# Altium footprint library Potentiometer_THT.PcbLib: 112 footprints (part 7 of 7)
Each footprint in its own frame and in the unit in brackets; x right, y up, seen from the top. Pads: shape width x height; smd on the part's side, far side on the other; paste and mask are expansions set on the pad; w line width, h text height; cw(c..) or ccw(c..) is an arc to the next point about the centre after c.
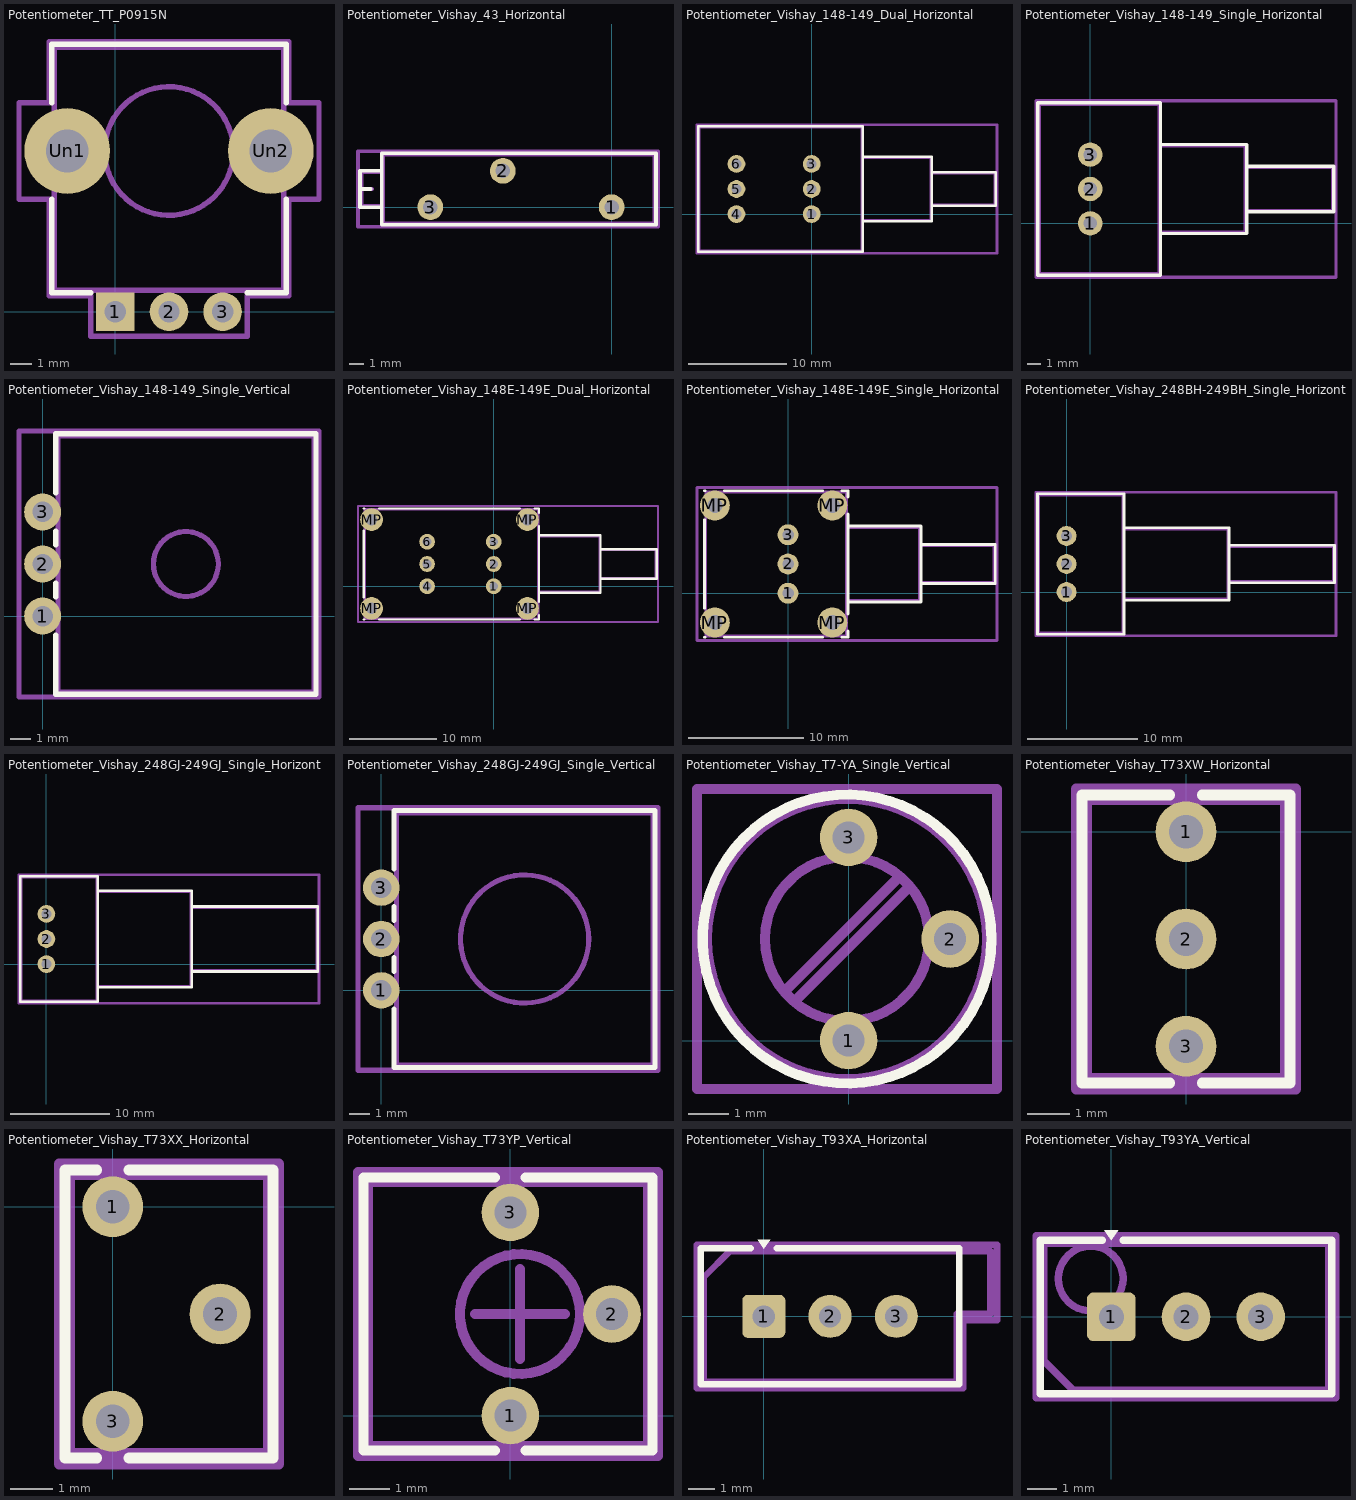
[diagram p6: the footprints below, top view; thin cyan lines are the x and y axes]

## Potentiometer_TT_P0915N [mm]
pads (5):
  rect 1.8x1.8 hole 1: 1(0,0)
  round 1.8 hole 1: 2(2.5,0) 3(5,0)
  rrect100% 4x4 hole 2: Un1(-2.25,7.5) Un2(7.25,7.5)
F.SilkS:
  lines w0.254: -2.97,5.25 -2.97,0.88 -1.15,0.88 ; -2.97,9.75 -2.97,12.47 7.97,12.47 7.97,9.75 ; 6.15,0.88 7.97,0.88 7.97,5.25
F.Fab:
  circle w0.254: c2.5,7.5 r3
  lines w0.254: -2.85,1 -2.85,12.35 7.85,12.35 7.85,1 -2.85,1
  text "'.Designator'" at -1.547,6.66 h1
F.CrtYd:
  lines w0.254: -4.5,5.25 -4.5,9.75 -3.1,9.75 -3.1,12.6 8.1,12.6 8.1,9.75 9.5,9.75 9.5,5.25 8.1,5.25 8.1,0.75 6.15,0.75 6.15,-1.15 -1.15,-1.15 -1.15,0.75 -3.1,0.75 -3.1,5.25 -4.5,5.25

## Potentiometer_Vishay_43_Horizontal [mm]
pads (3):
  round 1.8 hole 1: 1(0,0) 2(-7.62,2.54) 3(-12.7,0)
F.SilkS:
  lines w0.254: -17.63,1.27 -16.87,1.27 ; -17.63,-0.02 -17.63,2.56 -16.11,2.56 -16.11,-0.02 -17.63,-0.02 ; -16.11,-1.24 -16.11,3.78 3.11,3.78 3.11,-1.24 -16.11,-1.24
F.Fab:
  lines w0.254: -17.52,1.27 -16.76,1.27 ; -17.52,0.09 -17.52,2.45 -16,2.45 -16,0.09 -17.52,0.09 ; -16,-1.13 -16,3.67 3,3.67 3,-1.13 -16,-1.13
  text "'.Designator'" at -10.547,0.43 h1
F.CrtYd:
  lines w0.254: -17.77,-1.38 -17.77,3.92 3.25,3.92 3.25,-1.38 -17.77,-1.38

## Potentiometer_Vishay_148-149_Dual_Horizontal [mm]
pads (6):
  round 1.8 hole 1: 1(0,0) 2(0,2.54) 3(0,5.08) 4(-7.62,0) 5(-7.62,2.54) 6(-7.62,5.08)
F.SilkS:
  lines w0.254: -11.48,-3.82 -11.48,8.9 5.19,8.9 5.19,-3.82 -11.48,-3.82 ; 5.19,-0.745 5.19,5.825 12.19,5.825 12.19,-0.745 5.19,-0.745 ; 12.19,0.845 12.19,4.235 18.64,4.235 18.64,0.845 12.19,0.845
F.Fab:
  lines w0.254: -11.37,-3.71 -11.37,8.79 5.08,8.79 5.08,-3.71 -11.37,-3.71 ; 5.08,-0.635 5.08,5.715 12.08,5.715 12.08,-0.635 5.08,-0.635 ; 12.08,0.955 12.08,4.125 18.53,4.125 18.53,0.955 12.08,0.955
  text "'.Designator'" at -7.192,1.7 h1
F.CrtYd:
  lines w0.254: -11.62,-3.96 -11.62,9.04 18.78,9.04 18.78,-3.96 -11.62,-3.96

## Potentiometer_Vishay_148-149_Single_Horizontal [mm]
pads (3):
  round 1.8 hole 1: 1(0,0) 2(0,2.54) 3(0,5.08)
F.SilkS:
  lines w0.254: -3.86,-3.82 -3.86,8.9 5.19,8.9 5.19,-3.82 -3.86,-3.82 ; 5.19,-0.745 5.19,5.825 11.54,5.825 11.54,-0.745 5.19,-0.745 ; 11.54,0.845 11.54,4.235 17.99,4.235 17.99,0.845 11.54,0.845
F.Fab:
  lines w0.254: -3.75,-3.71 -3.75,8.79 5.08,8.79 5.08,-3.71 -3.75,-3.71 ; 5.08,-0.635 5.08,5.715 11.43,5.715 11.43,-0.635 5.08,-0.635 ; 11.43,0.955 11.43,4.125 17.88,4.125 17.88,0.955 11.43,0.955
  text "'.Designator'" at -3.382,1.7 h1
F.CrtYd:
  lines w0.254: -4,-3.96 -4,9.04 18.14,9.04 18.14,-3.96 -4,-3.96

## Potentiometer_Vishay_148-149_Single_Vertical [mm]
pads (3):
  round 1.8 hole 1: 1(0,0) 2(0,2.54) 3(0,5.08)
F.SilkS:
  lines w0.254: 0.64,-0.931 0.64,-3.82 13.36,-3.82 13.36,8.9 0.64,8.9 0.64,6.011 ; 0.64,0.931 0.64,1.609 ; 0.64,3.471 0.64,4.149
F.Fab:
  circle w0.254: c7,2.54 r1.585
  lines w0.254: 0.75,-3.71 0.75,8.79 13.25,8.79 13.25,-3.71 0.75,-3.71
  text "'.Designator'" at 2.59,-1.507 h1
F.CrtYd:
  lines w0.254: -1.15,-3.96 -1.15,9.04 13.5,9.04 13.5,-3.96 -1.15,-3.96

## Potentiometer_Vishay_148E-149E_Dual_Horizontal [mm]
pads (10):
  round 1.8 hole 1: 1(0,0) 2(0,2.54) 3(0,5.08) 4(-7.62,0) 5(-7.62,2.54) 6(-7.62,5.08)
  round 2.6 hole 1.3: MP(-13.97,-2.54) MP(-13.97,7.62) MP(3.85,-2.54) MP(3.85,7.62)
F.SilkS:
  lines w0.254: -14.87,-3.82 -14.808,-3.82 ; -14.87,-1.303 -14.87,6.383 ; -14.87,8.9 -14.808,8.9 ; -13.132,-3.82 3.012,-3.82 ; -13.132,8.9 3.012,8.9 ; 4.688,-3.82 5.19,-3.82 5.19,-3.278 ; 4.688,8.9 5.19,8.9 5.19,8.358 ; 5.19,-1.802 5.19,6.882 ; 5.19,-0.745 5.19,5.825 12.19,5.825 12.19,-0.745 5.19,-0.745 ; 12.19,0.845 12.19,4.235 18.64,4.235 18.64,0.845 12.19,0.845
F.Fab:
  lines w0.254: -14.76,-3.71 -14.76,8.79 5.08,8.79 5.08,-3.71 -14.76,-3.71 ; 5.08,-0.635 5.08,5.715 12.08,5.715 12.08,-0.635 5.08,-0.635 ; 12.08,0.955 12.08,4.125 18.53,4.125 18.53,0.955 12.08,0.955
  text "'.Designator'" at -8.887,1.7 h1
F.CrtYd:
  lines w0.254: -15.52,-4.09 -15.52,9.17 18.78,9.17 18.78,-4.09 -15.52,-4.09

## Potentiometer_Vishay_148E-149E_Single_Horizontal [mm]
pads (7):
  round 1.8 hole 1: 1(0,0) 2(0,2.54) 3(0,5.08)
  round 2.6 hole 1.3: MP(-6.35,-2.54) MP(-6.35,7.62) MP(3.85,-2.54) MP(3.85,7.62)
F.SilkS:
  lines w0.254: -7.25,-3.82 -7.188,-3.82 ; -7.25,-1.303 -7.25,6.383 ; -7.25,8.9 -7.188,8.9 ; -5.512,-3.82 3.012,-3.82 ; -5.512,8.9 3.012,8.9 ; 4.688,-3.82 5.19,-3.82 5.19,-3.278 ; 4.688,8.9 5.19,8.9 5.19,8.358 ; 5.19,-1.802 5.19,6.882 ; 5.19,-0.745 5.19,5.825 11.54,5.825 11.54,-0.745 5.19,-0.745 ; 11.54,0.845 11.54,4.235 17.99,4.235 17.99,0.845 11.54,0.845
F.Fab:
  lines w0.254: -7.14,-3.71 -7.14,8.79 5.08,8.79 5.08,-3.71 -7.14,-3.71 ; 5.08,-0.635 5.08,5.715 11.43,5.715 11.43,-0.635 5.08,-0.635 ; 11.43,0.955 11.43,4.125 17.88,4.125 17.88,0.955 11.43,0.955
  text "'.Designator'" at -5.077,1.7 h1
F.CrtYd:
  lines w0.254: -7.9,-4.09 -7.9,9.17 18.14,9.17 18.14,-4.09 -7.9,-4.09

## Potentiometer_Vishay_248BH-249BH_Single_Horizontal [mm]
pads (3):
  round 1.8 hole 1: 1(0,0) 2(0,2.54) 3(0,5.08)
F.SilkS:
  lines w0.254: -2.63,-3.82 -2.63,8.9 5.19,8.9 5.19,-3.82 -2.63,-3.82 ; 5.19,-0.745 5.19,5.825 14.69,5.825 14.69,-0.745 5.19,-0.745 ; 14.69,0.84 14.69,4.24 24.24,4.24 24.24,0.84 14.69,0.84
F.Fab:
  lines w0.254: -2.52,-3.71 -2.52,8.79 5.08,8.79 5.08,-3.71 -2.52,-3.71 ; 5.08,-0.635 5.08,5.715 14.58,5.715 14.58,-0.635 5.08,-0.635 ; 14.58,0.95 14.58,4.13 24.13,4.13 24.13,0.95 14.58,0.95
  text "'.Designator'" at -2.767,1.7 h1
F.CrtYd:
  lines w0.254: -2.77,-3.96 -2.77,9.04 24.38,9.04 24.38,-3.96 -2.77,-3.96

## Potentiometer_Vishay_248GJ-249GJ_Single_Horizontal [mm]
pads (3):
  round 1.8 hole 1: 1(0,0) 2(0,2.54) 3(0,5.08)
F.SilkS:
  lines w0.254: -2.63,-3.82 -2.63,8.9 5.19,8.9 5.19,-3.82 -2.63,-3.82 ; 5.19,-2.332 5.19,7.412 14.69,7.412 14.69,-2.332 5.19,-2.332 ; 14.69,-0.745 14.69,5.825 27.41,5.825 27.41,-0.745 14.69,-0.745
F.Fab:
  lines w0.254: -2.52,-3.71 -2.52,8.79 5.08,8.79 5.08,-3.71 -2.52,-3.71 ; 5.08,-2.222 5.08,7.302 14.58,7.302 14.58,-2.222 5.08,-2.222 ; 14.58,-0.635 14.58,5.715 27.3,5.715 27.3,-0.635 14.58,-0.635
  text "'.Designator'" at -2.767,1.7 h1
F.CrtYd:
  lines w0.254: -2.77,-3.96 -2.77,9.04 27.55,9.04 27.55,-3.96 -2.77,-3.96

## Potentiometer_Vishay_248GJ-249GJ_Single_Vertical [mm]
pads (3):
  round 1.8 hole 1: 1(0,0) 2(0,2.54) 3(0,5.08)
F.SilkS:
  lines w0.254: 0.64,-0.931 0.64,-3.82 13.56,-3.82 13.56,8.9 0.64,8.9 0.64,6.011 ; 0.64,0.931 0.64,1.609 ; 0.64,3.471 0.64,4.149
F.Fab:
  circle w0.254: c7.1,2.54 r3.175
  lines w0.254: 0.75,-3.71 0.75,8.79 13.45,8.79 13.45,-3.71 0.75,-3.71
  text "'.Designator'" at 2.59,-1.507 h1
F.CrtYd:
  lines w0.254: -1.15,-3.96 -1.15,9.04 13.7,9.04 13.7,-3.96 -1.15,-3.96

## Potentiometer_Vishay_T7-YA_Single_Vertical [mm]
pads (3):
  round 1.44 hole 0.8: 1(0,0) 2(2.54,2.54) 3(0,5.08)
F.SilkS:
  circle w0.254: c-0.04,2.54 r3.61
F.Fab:
  circle w0.254: c-0.04,2.54 r2.05
  circle w0.254: c-0.04,2.54 r3.5
  lines w0.254: -1.595,1.235 1.265,4.095 ; -1.345,0.985 1.515,3.845
  text "'.Designator'" at -2.05,-0.415 h0.73
F.CrtYd:
  lines w0.254: -3.79,-1.21 -3.79,6.29 3.71,6.29 3.71,-1.21 -3.79,-1.21

## Potentiometer_Vishay_T73XW_Horizontal [mm]
pads (3):
  round 1.44 hole 0.8: 1(0,0) 2(0,-2.54) 3(0,-5.08)
F.SilkS:
  lines w0.254: -0.382,-5.95 -2.46,-5.95 -2.46,0.87 -0.382,0.87 ; 0.382,-5.95 2.46,-5.95 2.46,0.87 0.382,0.87
F.Fab:
  lines w0.254: -2.35,-5.84 -2.35,0.76 2.35,0.76 2.35,-5.84 -2.35,-5.84
  text "'.Designator'" at -4.047,-3.38 h1
F.CrtYd:
  lines w0.254: -2.6,-6.09 -2.6,1.01 2.6,1.01 2.6,-6.09 -2.6,-6.09

## Potentiometer_Vishay_T73XX_Horizontal [mm]
pads (3):
  round 1.44 hole 0.8: 1(0,0) 2(2.54,-2.54) 3(0,-5.08)
F.SilkS:
  lines w0.254: -0.382,-5.95 -1.13,-5.95 -1.13,0.87 -0.382,0.87 ; 0.382,-5.95 3.79,-5.95 3.79,0.87 0.382,0.87
F.Fab:
  lines w0.254: -1.02,-5.84 -1.02,0.76 3.68,0.76 3.68,-5.84 -1.02,-5.84
  text "'.Designator'" at -2.717,-3.38 h1
F.CrtYd:
  lines w0.254: -1.27,-6.09 -1.27,1.01 3.93,1.01 3.93,-6.09 -1.27,-6.09

## Potentiometer_Vishay_T73YP_Vertical [mm]
pads (3):
  round 1.44 hole 0.8: 1(0,0) 2(2.54,2.54) 3(0,5.08)
F.SilkS:
  lines w0.254: -0.382,-0.87 -3.67,-0.87 -3.67,5.95 -0.382,5.95 ; 0.382,-0.87 3.55,-0.87 3.55,5.95 0.382,5.95
F.Fab:
  circle w0.254: c0.24,2.54 r1.5
  lines w0.254: -0.885,2.54 1.365,2.54 ; 0.24,1.415 0.24,3.665 ; -3.56,-0.76 -3.56,5.84 3.44,5.84 3.44,-0.76 -3.56,-0.76
  text "'.Designator'" at -1.72,-1.507 h1
F.CrtYd:
  lines w0.254: -3.81,-1.01 -3.81,6.09 3.69,6.09 3.69,-1.01 -3.81,-1.01

## Potentiometer_Vishay_T93XA_Horizontal [mm]
pads (3):
  rrect25% 1.65x1.65 hole 0.85: 1(0,0)
  round 1.65 hole 0.85: 2(2.54,0) 3(5.08,0)
F.SilkS:
  region: 0,2.6 -0.24,2.93 0.24,2.93
  lines w0.254: -0.5,2.61 -2.42,2.61 -2.42,-2.61 7.5,-2.61 7.5,2.61 0.5,2.61
F.Fab:
  lines w0.254: -2.3,-2.5 -2.3,1.5 -1.3,2.5 7.39,2.5 8.69,2.5 8.69,0.1 7.39,0.1 7.39,-2.5 -2.3,-2.5
  text "'.Designator'" at -1.507,-0.84 h1
F.CrtYd:
  lines w0.254: -2.56,-2.75 -2.56,2.75 7.64,2.75 8.94,2.75 8.94,-0.15 7.64,-0.15 7.64,-2.75 -2.56,-2.75

## Potentiometer_Vishay_T93YA_Vertical [mm]
pads (3):
  rrect25% 1.65x1.65 hole 0.85: 1(0,0)
  round 1.65 hole 0.85: 2(2.54,0) 3(5.08,0)
F.SilkS:
  region: 0,2.61 -0.24,2.94 0.24,2.94
  lines w0.254: -0.3,2.61 -2.42,2.61 -2.42,-2.61 7.5,-2.61 7.5,2.61 0.4,2.61
F.Fab:
  circle w0.254: c-0.7,1.3 r1.1
  lines w0.254: -2.3,-1.5 -2.3,2.5 7.39,2.5 7.39,-2.5 -1.3,-2.5 -2.3,-1.5
  text "'.Designator'" at -1.547,-0.84 h1
F.CrtYd:
  lines w0.254: -2.56,-2.75 -2.56,2.75 7.64,2.75 7.64,-2.75 -2.56,-2.75